# Altium schematic symbol library XZMDKVG55W-7.SchLib: 1 symbol
Pins are listed as number, name and electrical type; pins without a type are passive.

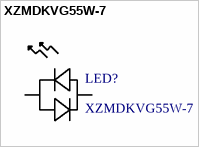
[diagram p0: symbol XZMDKVG55W-7]

## XZMDKVG55W-7
designator LED?
No Description Available; Manufacturer_Part_Number: XZMDKVG55W-4; Built_By: EMA_Matt; Vendor: SunLED; SourceLibrary: SunLED_2020-06-23; Type: DEV; Datasheet: https://www.sunledusa.com/products/spec/XZMDKVG55W-4.pdf; Copyright: Copyright (C) 2018 Accelerated Designs. All rights reserved; RefDes: RefDes
footprint DIOC3216X18N (Chip Diode, 2-Leads, Body 3.20x1.60mm, IPC Medium Density)
pins: 1, 2